# Altium footprint library Con DIN Circular.PcbLib: 41 footprints (part 1 of 3)
Each footprint in its own frame and in the unit in brackets; x right, y up, seen from the top. Pads: shape width x height; smd on the part's side, far side on the other; paste and mask are expansions set on the pad; w line width, h text height; cw(c..) or ccw(c..) is an arc to the next point about the centre after c.
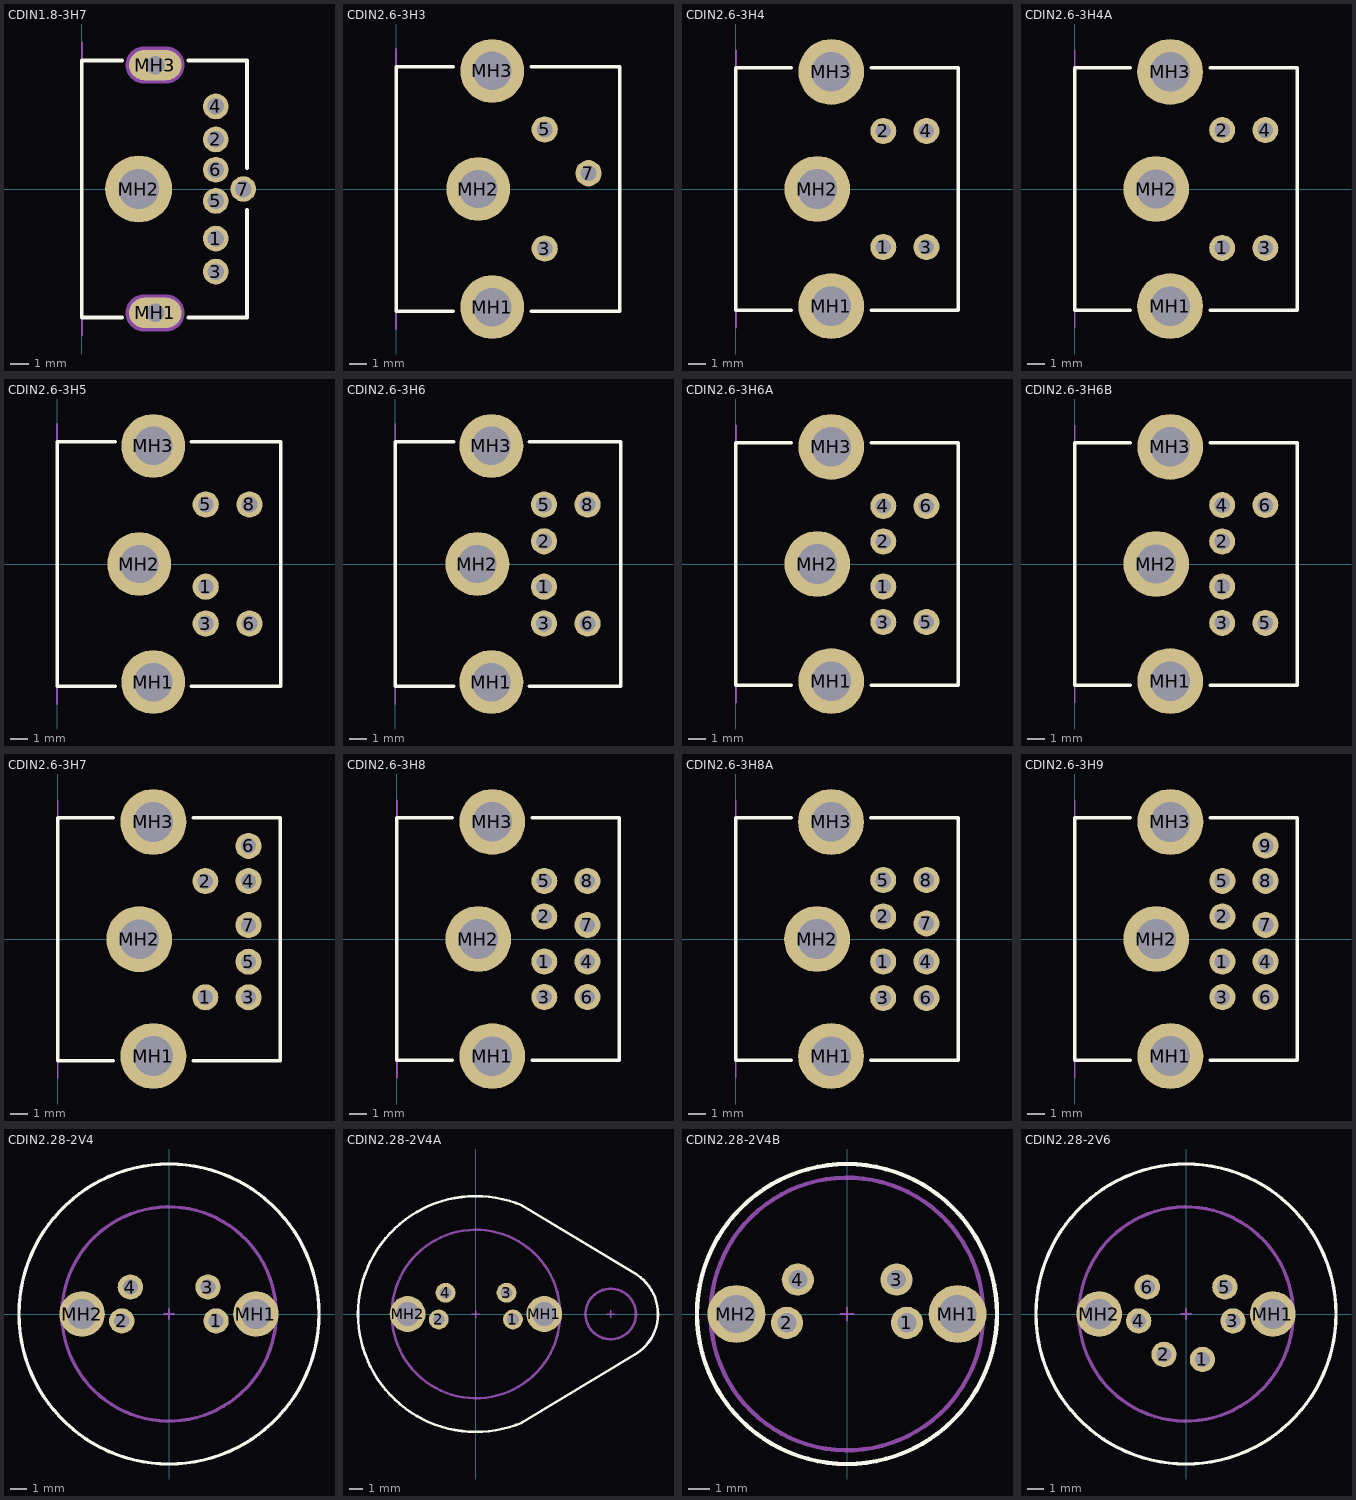
[diagram p0: the footprints below, top view; thin cyan lines are the x and y axes]

## CDIN1.8-3H7 [mm] "Connector; Circular DIN, Thru-Hole; 7 Position; Right Angle; Body 14 x 9 x 13 mm (WxTxH), Shielded, Special PCB Retention"
height 13
pads (10):
  round 1.4 hole 0.9: 1(7.3,-2.7) 2(7.3,2.7) 3(7.3,-4.5) 4(7.3,4.5) 5(7.3,-0.65) 6(7.3,1.05) 7(8.8,0)
  oval 2.85x1.65 hole 1: MH1(4,-6.75) MH3(4,6.75)
  round 3.65 hole 2.2: MH2(3.1,0)
Top Overlay:
  lines w0.2: 2.2,-7 0,-7 0,7 2.2,7 ; 5.8,-7 9,-7 9,-1.14 ; 5.8,7 9,7 9,1.14
Mechanical 1:
  lines w0.1: 0,-8 0,8
  lines w1: 3.4,-6.75 4.6,-6.75 ; 3.4,6.75 4.6,6.75
  text "Alert PCB fab to slot details" at -0.076,9.842 h0.3
  text "Slot 1.0x2.2mm, PTH" at -0.076,9.342 h0.3
  text "Assign keep-out area to slot" at -0.076,10.342 h0.3
  text "Mech 1 - Slot cut-out" at -0.076,8.842 h0.3
  text "Mech 2 - Clearance, move to internal plane if present" at -0.076,8.342 h0.3
  text "PCB Edge" at 0.5,-6.7 h0.25
Mechanical 2:
  lines w2.016: 3.4,-6.75 4.6,-6.75 ; 3.4,6.75 4.6,6.75

## CDIN2.6-3H3 [mm] "Connector; Circular DIN, Thru-Hole; 3 Position; Right Angle; Pitch 2.1/2.6 mm; Body 14 x 12.8 x 13 mm (WxTxH), Shielded"
height 13
pads (6):
  round 1.5 hole 0.9: 3(8.5,-3.405) 5(8.5,3.405) 7(11,0.9)
  round 3.65 hole 2.2: MH1(5.5,-6.75) MH2(4.7,0) MH3(5.5,6.75)
Top Overlay:
  lines w0.2: 3.275,-7 0,-7 0,7 3.275,7 ; 7.725,-7 12.8,-7 12.8,7 7.725,7
Mechanical 1:
  lines w0.1: 0,-8 0,8
  text "PCB Edge" at 0.6,-6.6 h0.25

## CDIN2.6-3H4 [mm] "Connector; Circular DIN, Thru-Hole; 4 Position; Right Angle; Pitch 2.05/2.6 mm; Body 14 x 12.83 x 13 mm (WxTxH), Shielded, Special PCB Retention"
height 13
pads (7):
  round 1.5 hole 0.89: 1(8.51,-3.35) 2(8.51,3.35) 3(11,-3.35) 4(11,3.35)
  round 3.8 hole 2.29: MH1(5.51,-6.76) MH2(4.7,0) MH3(5.51,6.76)
Top Overlay:
  lines w0.2: 3.21,-7 0,-7 0,7 3.21,7 ; 7.81,-7 12.83,-7 12.83,7 7.81,7
Mechanical 1:
  lines w0.1: 0,-8 0,8
  text "PCB Edge" at 0.6,-6.7 h0.25

## CDIN2.6-3H4A [mm] "Connector; Circular DIN, Thru-Hole; 4 Position; Right Angle; Pitch 2.1/2.6 mm; Body 14 x 12.84 x 13 mm (WxTxH), Shielded, Special PCB Retention"
height 13
pads (7):
  round 1.5 hole 0.9: 1(8.51,-3.4) 2(8.51,3.4) 3(11,-3.4) 4(11,3.4)
  round 3.8 hole 2.28: MH1(5.5,-6.76) MH2(4.7,0) MH3(5.5,6.76)
Top Overlay:
  lines w0.2: 3.21,-7 0,-7 0,7 3.21,7 ; 7.81,-7 12.84,-7 12.84,7 7.81,7
Mechanical 1:
  lines w0.1: 0,-8 0,8
  text "PCB Edge" at 0.6,-6.7 h0.25

## CDIN2.6-3H5 [mm] "Connector; Circular DIN, Thru-Hole; 5 Position; Right Angle; Pitch 2.1/2.6 mm; Body 14 x 12.8 x 13 mm (WxTxH), Shielded, Special PCB Retention"
height 13
pads (8):
  round 1.5 hole 0.9: 1(8.5,-1.3) 3(8.5,-3.405) 5(8.5,3.405) 6(11,-3.405) 8(11,3.405)
  round 3.65 hole 2.2: MH1(5.5,-6.75) MH2(4.7,0) MH3(5.5,6.75)
Top Overlay:
  lines w0.2: 3.34,-7 0,-7 0,7 3.34,7 ; 7.66,-7 12.8,-7 12.8,7 7.66,7
Mechanical 1:
  lines w0.1: 0,-8 0,8
  text "PCB Edge" at 0.6,-6.7 h0.25

## CDIN2.6-3H6 [mm] "Connector; Circular DIN, Thru-Hole; 6 Position; Right Angle; Pitch 2.1/2.6 mm; Body 14 x 12.9 x 13 mm (WxTxH)"
height 13
pads (9):
  round 1.5 hole 0.9: 1(8.51,-1.3) 2(8.51,1.3) 3(8.51,-3.4) 5(8.51,3.4) 6(11,-3.4) 8(11,3.4)
  round 3.65 hole 2.2: MH1(5.5,-6.75) MH2(4.7,0) MH3(5.5,6.75)
Top Overlay:
  lines w0.2: 3.34,-7 0,-7 0,7 3.34,7 ; 7.66,-7 12.9,-7 12.9,7 7.66,7
Mechanical 1:
  lines w0.1: 0,-8 0,8
  text "PCB Edge" at 0.6,-6.7 h0.25

## CDIN2.6-3H6A [mm] "Connector; Circular DIN, Thru-Hole; 6 Position; Right Angle; Pitch 2.05/2.6 mm; Body 14 x 12.83 x 13 mm (WxTxH), Shielded, Special PCB Retention"
height 13
pads (9):
  round 1.5 hole 0.89: 1(8.51,-1.3) 2(8.51,1.3) 3(8.51,-3.35) 4(8.51,3.35) 5(11,-3.35) 6(11,3.35)
  round 3.8 hole 2.29: MH1(5.51,-6.76) MH2(4.7,0) MH3(5.51,6.76)
Top Overlay:
  lines w0.2: 3.21,-7 0,-7 0,7 3.21,7 ; 7.81,-7 12.83,-7 12.83,7 7.81,7
Mechanical 1:
  lines w0.1: 0,-8 0,8
  text "PCB Edge" at 0.6,-6.6 h0.25

## CDIN2.6-3H6B [mm] "Connector; Circular DIN, Thru-Hole; 6 Position; Right Angle; Pitch 2.1/2.6 mm; Body 14 x 12.84 x 13 mm (WxTxH), Shielded"
height 13
pads (9):
  round 1.5 hole 0.9: 1(8.51,-1.3) 2(8.51,1.3) 3(8.51,-3.4) 4(8.51,3.4) 5(11,-3.4) 6(11,3.4)
  round 3.8 hole 2.28: MH1(5.51,-6.76) MH2(4.7,0) MH3(5.51,6.76)
Top Overlay:
  lines w0.2: 3.21,-7 0,-7 0,7 3.21,7 ; 7.81,-7 12.84,-7 12.84,7 7.81,7
Mechanical 1:
  lines w0.1: 0,-8 0,8
  text "PCB Edge" at 0.6,-6.6 h0.25

## CDIN2.6-3H7 [mm] "Connector; Circular DIN, Thru-Hole; 7 Position; Right Angle; Pitch 2.05/2.6 mm; Body 14 x 12.83 x 13 mm (WxTxH), Shielded, Special PCB Retention"
height 13
pads (10):
  round 1.5 hole 0.89: 1(8.51,-3.35) 2(8.51,3.35) 3(11,-3.35) 4(11,3.35) 5(11,-1.3) 6(11,5.38) 7(11,0.81)
  round 3.8 hole 2.29: MH1(5.51,-6.74) MH2(4.7,0) MH3(5.51,6.76)
Top Overlay:
  lines w0.2: 3.21,-7 0,-7 0,7 3.21,7 ; 7.81,-7 12.83,-7 12.83,7 7.81,7
Mechanical 1:
  lines w0.1: 0,-8 0,8
  text "PCB Edge" at 0.6,-6.7 h0.25

## CDIN2.6-3H8 [mm] "Connector; Circular DIN, Thru-Hole; 8 Position; Right Angle; Pitch 2.05/2.6 mm; Body 14 x 12.83 x 13 mm (WxTxH), Shielded, Special PCB Retention"
height 13
pads (11):
  round 1.5 hole 0.89: 1(8.51,-1.3) 2(8.51,1.3) 3(8.51,-3.35) 4(11,-1.3) 5(8.51,3.35) 6(11,-3.35) 7(11,0.81) 8(11,3.35)
  round 3.8 hole 2.29: MH1(5.51,-6.76) MH2(4.7,0) MH3(5.51,6.76)
Top Overlay:
  lines w0.2: 3.2,-7 0,-7 0,7 3.2,7 ; 7.8,-6.99 12.83,-7 12.83,7 7.8,7
Mechanical 1:
  lines w0.1: 0,-8 0,8
  text "PCB Edge" at 0.6,-6.6 h0.25

## CDIN2.6-3H8A [mm] "Connector; Circular DIN, Thru-Hole; 8 Position; Right Angle; Pitch 2.1/2.6 mm; Body 14 x 12.84 x 13 mm (WxTxH), Shielded"
height 13
pads (11):
  round 1.5 hole 0.9: 1(8.51,-1.3) 2(8.51,1.3) 3(8.51,-3.4) 4(11,-1.3) 5(8.51,3.4) 6(11,-3.4) 7(11,0.9) 8(11,3.4)
  round 3.8 hole 2.28: MH1(5.5,-6.75) MH2(4.7,0) MH3(5.5,6.75)
Top Overlay:
  lines w0.2: 3.2,-7 0,-7 0,7 3.2,7 ; 7.8,-6.99 12.84,-7 12.84,7 7.8,7
Mechanical 1:
  lines w0.1: 0,-8 0,8
  text "PCB Edge" at 0.6,-6.6 h0.25

## CDIN2.6-3H9 [mm] "Connector; Circular DIN, Thru-Hole; 9 Position; Right Angle; Pitch 2.05/2.6 mm; Body 14 x 12.83 x 13 mm (WxTxH), Shielded, Special PCB Retention"
height 13
pads (12):
  round 1.5 hole 0.89: 1(8.51,-1.3) 2(8.51,1.3) 3(8.51,-3.35) 4(11,-1.3) 5(8.51,3.35) 6(11,-3.35) 7(11,0.81) 8(11,3.35) 9(11,5.38)
  round 3.8 hole 2.29: MH1(5.51,-6.745) MH2(4.7,0) MH3(5.51,6.745)
Top Overlay:
  lines w0.2: 3.21,-7 0,-7 0,7 3.21,7 ; 7.81,-7 12.83,-7 12.83,7 7.81,7
Mechanical 1:
  lines w0.1: 0,-8 0,8
  text "PCB Edge" at 0.6,-6.6 h0.25

## CDIN2.28-2V4 [mm] "Connector; Circular DIN, Thru-Hole; 4 Position; Vertical; Diameter 17.78 mm, Shielded"
height 9.52
pads (6):
  round 1.5 hole 0.89: 1(2.79,-0.41) 2(-2.8,-0.41) 3(2.31,1.6) 4(-2.29,1.6)
  round 2.7 hole 1.78: MH1(5.15,0) MH2(-5.15,0)
Top Overlay:
  circle w0.2: c0,0 r8.89
Mechanical 1:
  circle w0.2: c0,0 r6.35
  lines w0.1: -0.3,0 0.3,0 ; 0,-0.3 0,0.3
  text "Panel Cut-out" at -2.4,3.8 h0.5
  text "Recommended" at -2.4,4.7 h0.5

## CDIN2.28-2V4A [mm] "Connector; Circular DIN, Thru-Hole; 4 Position; Vertical; Diameter 17.78 mm, Shielded, Front panel grounding, Front panel screw-down"
height 9.52
pads (6):
  round 1.5 hole 0.89: 1(2.79,-0.41) 2(-2.8,-0.41) 3(2.31,1.6) 4(-2.29,1.6)
  round 2.7 hole 1.78: MH1(5.15,0) MH2(-5.15,0)
Top Overlay:
  lines w0.2: 3.472,8.184 ccw(c0,0) 3.473,-8.183 12.104,-2.982 ccw(c10.177,0) 12.156,2.947 3.472,8.184
Mechanical 1:
  circle w0.2: c0,0 r6.35
  circle w0.2: c10.16,0 r1.905
  lines w0.1: -0.3,0 0.3,0 ; 0,-0.3 0,0.3 ; 9.86,-0.02 10.46,0 ; 10.16,-0.3 10.16,0.3
  text "Panel Cut-out" at -2.4,3.8 h0.5
  text "Recommended" at -2.4,4.7 h0.5

## CDIN2.28-2V4B [mm] "Connector; Circular DIN, Thru-Hole; 4 Position; Vertical; Diameter 13.97 mm"
height 9.52
pads (6):
  round 1.5 hole 0.89: 1(2.79,-0.41) 2(-2.8,-0.41) 3(2.31,1.6) 4(-2.29,1.6)
  round 2.7 hole 1.78: MH1(5.15,0) MH2(-5.15,0)
Top Overlay:
  circle w0.2: c0,0 r6.985
Mechanical 1:
  circle w0.2: c0,0 r6.35
  lines w0.1: -0.3,0 0.3,0 ; 0,-0.3 0,0.3
  text "Recommended" at -2.4,4.7 h0.5
  text "Panel Cut-out" at -2.4,3.8 h0.5

## CDIN2.28-2V6 [mm] "Connector; Circular DIN, Thru-Hole; 6 Position; Vertical; Diameter 17.78 mm, Shielded"
height 9.52
pads (8):
  round 1.5 hole 0.89: 1(0.975,-2.69) 2(-1.305,-2.39) 3(2.785,-0.41) 4(-2.805,-0.41) 5(2.305,1.6) 6(-2.295,1.6)
  round 2.7 hole 1.78: MH1(5.145,0) MH2(-5.145,0)
Top Overlay:
  circle w0.2: c0,0 r8.89
Mechanical 1:
  circle w0.2: c0,0 r6.35
  lines w0.1: -0.3,0 0.3,0 ; 0,-0.3 0,0.3
  text "Recommended" at -2.4,4.7 h0.5
  text "Panel Cut-out" at -2.4,3.8 h0.5